# EAGLE library part FT230X (library stepOSP)
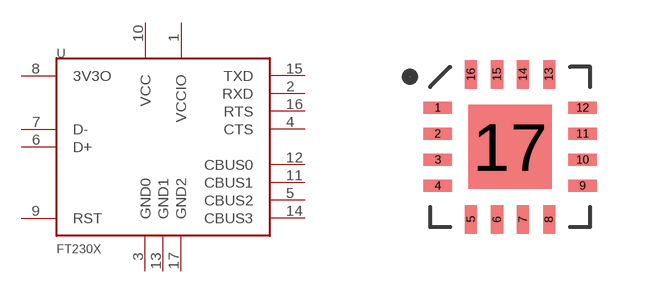
[diagram p45: symbol with the pads of QFN_16_4X4; footprint QFN_16_4X4]

Designator prefix -

## FT230X  [QFN_16_4X4]
1  VCCIO
2  RXD
3  GND0
4  CTS
5  CBUS2
6  D+
7  D-
8  3V3O
9  RST
10  VCC
11  CBUS1
12  CBUS0
13  GND1
14  CBUS3
15  TXD
16  RTS
17  GND2

## Footprint QFN_16_4X4 (pad centres in mm)
smd 0.72 x 0.3: 1 -1.812,0.975; 2 -1.812,0.325; 3 -1.812,-0.325; 4 -1.812,-0.975; 9 1.812,-0.975; 10 1.812,-0.325; 11 1.812,0.325; 12 1.812,0.975
smd 0.3 x 0.72: 5 -0.975,-1.812; 6 -0.325,-1.812; 7 0.325,-1.812; 8 0.975,-1.812; 13 0.975,1.812; 14 0.325,1.812; 15 -0.325,1.812; 16 -0.975,1.812
smd 2.1 x 2.1: 17 0,0